# EAGLE library part LM3S316 (library luminary-arm)
MICROCONTROLLER
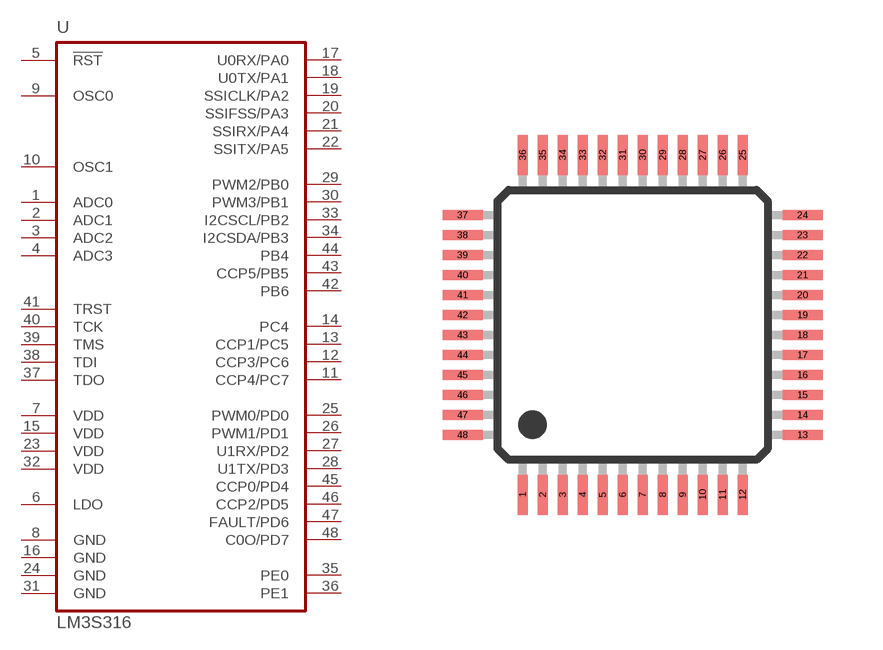
[diagram p4: symbol with the pads of LQFP48; footprint LQFP48]

Designator prefix U

## LM3S316  [LQFP48]
1  ADC0  pas
2  ADC1  pas
3  ADC2  pas
4  ADC3  pas
5  !RST!  in
6  LDO  pas
7  VDD  pwr
8  GND  pwr
9  OSC0  pas
10  OSC1  pas
11  CCP4/PC7
12  CCP3/PC6
13  CCP1/PC5
14  PC4
15  VDD  pwr
16  GND  pwr
17  U0RX/PA0
18  U0TX/PA1
19  SSICLK/PA2
20  SSIFSS/PA3
21  SSIRX/PA4
22  SSITX/PA5
23  VDD  pwr
24  GND  pwr
25  PWM0/PD0
26  PWM1/PD1
27  U1RX/PD2
28  U1TX/PD3
29  PWM2/PB0
30  PWM3/PB1
31  GND  pwr
32  VDD  pwr
33  I2CSCL/PB2
34  I2CSDA/PB3
35  PE0
36  PE1
37  TDO  out
38  TDI  in
39  TMS  in
40  TCK  in
41  TRST  in
42  PB6
43  CCP5/PB5
44  PB4
45  CCP0/PD4
46  CCP2/PD5
47  FAULT/PD6
48  C0O/PD7

## Footprint LQFP48 (pad centres in mm)
LQFP48
smd 0.25 x 1: 1 -2.75,-4.25; 2 -2.25,-4.25; 3 -1.75,-4.25; 4 -1.25,-4.25; 5 -0.75,-4.25; 6 -0.25,-4.25; 7 0.25,-4.25; 8 0.75,-4.25; 9 1.25,-4.25; 10 1.75,-4.25; 11 2.25,-4.25; 12 2.75,-4.25; 25 2.75,4.25; 26 2.25,4.25; 27 1.75,4.25; 28 1.25,4.25; 29 0.75,4.25; 30 0.25,4.25; 31 -0.25,4.25; 32 -0.75,4.25; 33 -1.25,4.25; 34 -1.75,4.25; 35 -2.25,4.25; 36 -2.75,4.25
smd 1 x 0.25: 13 4.25,-2.75; 14 4.25,-2.25; 15 4.25,-1.75; 16 4.25,-1.25; 17 4.25,-0.75; 18 4.25,-0.25; 19 4.25,0.25; 20 4.25,0.75; 21 4.25,1.25; 22 4.25,1.75; 23 4.25,2.25; 24 4.25,2.75; 37 -4.25,2.75; 38 -4.25,2.25; 39 -4.25,1.75; 40 -4.25,1.25; 41 -4.25,0.75; 42 -4.25,0.25; 43 -4.25,-0.25; 44 -4.25,-0.75; 45 -4.25,-1.25; 46 -4.25,-1.75; 47 -4.25,-2.25; 48 -4.25,-2.75